# EAGLE library part 14 (library Connectors > Header)
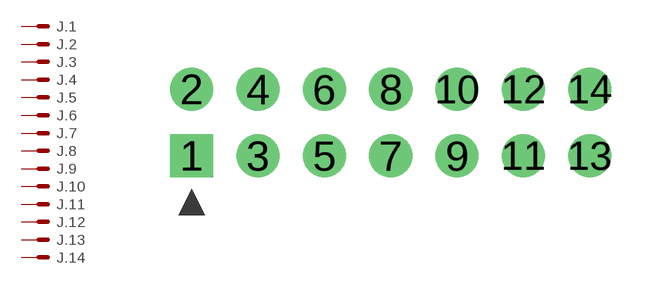
[diagram p0: symbol with the pads of 2X7_2.54; footprint 2X7_2.54]

Designator prefix J; gates .1=K .2=K .3=K .4=K .5=K .6=K .7=K .8=K .9=K .10=K .11=K .12=K .13=K .14=K

## 14  [2X7_2.54]
1  .1:S  pas
2  .2:S  pas
3  .3:S  pas
4  .4:S  pas
5  .5:S  pas
6  .6:S  pas
7  .7:S  pas
8  .8:S  pas
9  .9:S  pas
10  .10:S  pas
11  .11:S  pas
12  .12:S  pas
13  .13:S  pas
14  .14:S  pas

## Footprint 2X7_2.54 (pad centres in mm)
drill 1.1 square: 1 -7.62,-1.27
drill 1.1: 2 -7.62,1.27; 3 -5.08,-1.27; 4 -5.08,1.27; 5 -2.54,-1.27; 6 -2.54,1.27; 7 0,-1.27; 8 0,1.27; 9 2.54,-1.27; 10 2.54,1.27; 11 5.08,-1.27; 12 5.08,1.27; 13 7.62,-1.27; 14 7.62,1.27